# Altium footprint library PCB - CAPACITOR - ELECTROLYTIC - CAPAE1030X1050N.PCBLIB: 1 footprints
Each footprint in its own frame and in the unit in brackets; x right, y up, seen from the top. Pads: shape width x height; smd on the part's side, far side on the other; paste and mask are expansions set on the pad; w line width, h text height; cw(c..) or ccw(c..) is an arc to the next point about the centre after c.
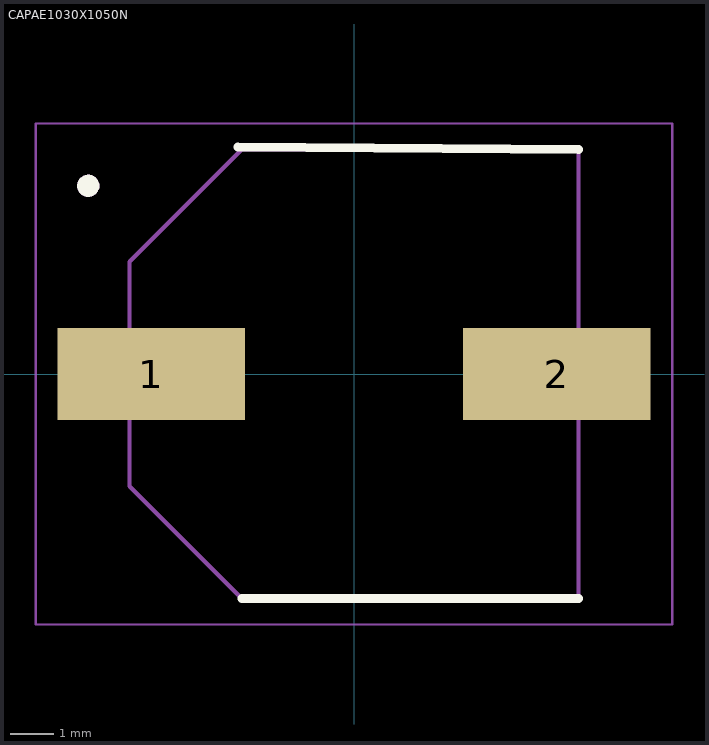
[diagram p0: the footprint, top view; thin cyan lines are the x and y axes]

## CAPAE1030X1050N [mm]
pads (2):
  rect 4.3x2.1 smd: 1(-4.65,0) 2(4.65,0)
Top Overlay:
  circle w0.254: c-6.096,4.318 r0.127
  lines w0.2: -2.667,5.207 5.15,5.15 ; -2.575,-5.15 5.15,-5.15
Top Assembly:
  circle w0.254: c-6.096,4.318 r0.127
  lines w0.1: -5.15,-2.575 -5.15,2.575 -2.575,5.15 5.15,5.15 5.15,-5.15 -2.575,-5.15 -5.15,-2.575
Top Courtyard:
  lines w0.05: -7.3,-5.75 7.3,-5.75 7.3,5.75 -7.3,5.75 -7.3,-5.75
Top Designator:
  text ".Designator" at -7.239,7.747 h1
Top Value (Mech13):
  text ".Comment" at -7.366,6.604 h1
3D body "EEE-FK1V331P.stp": height 10.5, standoff 0, extent -6,-5.25 6,5.25